# Altium schematic symbol library AHT_xx.SchLib: 3 symbols
Pins are listed as number, name and electrical type; pins without a type are passive.

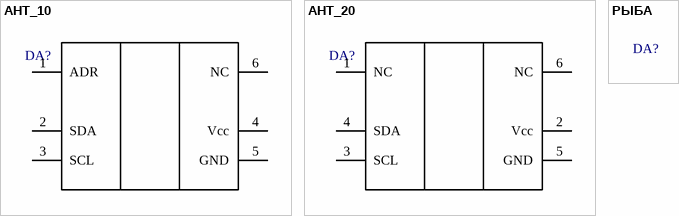
[diagram p0: symbols AHT_10 to РЫБА]

## AHT_10
designator DA?, comment AHT10  (value not drawn)
Manufacturer: Aosong (Guangzhou) Elec; Rem: *; Package: *; Value: *; Tolerance: *; Power/Voltage: *; TKE: *; ManufacturerPartNumber: AHT10; Quantity: *; Примечание: *
footprint AHT10
pins: 1 ADR, 2 SDA, 3 SCL, 4 Vcc, 5 GND, 6 NC

## AHT_20
designator DA?, comment AHT20  (value not drawn)
Manufacturer: Aosong (Guangzhou) Elec; Rem: *; Package: *; Value: *; Tolerance: *; Power/Voltage: *; TKE: *; ManufacturerPartNumber: AHT20; Quantity: *; Примечание: *
footprint AHT20
pins: 1 NC, 2 Vcc, 3 SCL, 4 SDA, 5 GND, 6 NC

## РЫБА
designator DA?  (value not drawn)
Rem: *; Package: *; Value: *; Tolerance: *; Power/Voltage: *; TKE: *; ManufacturerPartNumber: *; Manufacturer: *; Quantity: *; Примечание: *